# Altium footprint library PMW3389_PCBlib.PcbLib: 4 footprints
Each footprint in its own frame and in the unit in brackets; x right, y up, seen from the top. Pads: shape width x height; smd on the part's side, far side on the other; paste and mask are expansions set on the pad; w line width, h text height; cw(c..) or ccw(c..) is an arc to the next point about the centre after c.
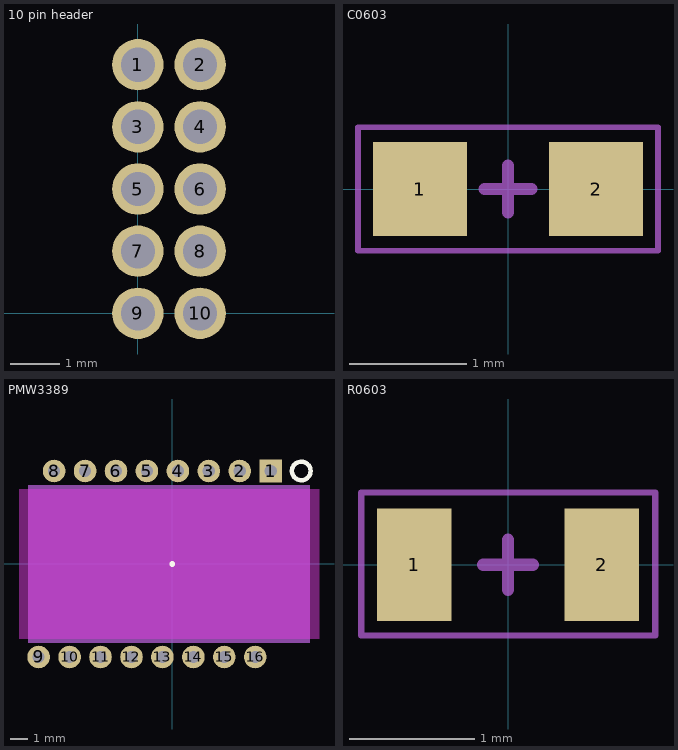
[diagram p0: the footprints below, top view; thin cyan lines are the x and y axes]

## 10 pin header [mm]
pads (10):
  round 1.05 hole 0.7 mask+0.05: 1(0,5.08) 2(1.27,5.08) 3(0,3.81) 4(1.27,3.81) 5(0,2.54) 6(1.27,2.54) 7(0,1.27) 8(1.27,1.27) 9(0,0) 10(1.27,0)

## C0603 [mm]
pads (2):
  rect 0.8x0.8 smd: 1(-0.75,0) 2(0.75,0)
Top Courtyard:
  lines w0.05: -1.277,-0.525 1.276,-0.525 1.276,0.525 -1.277,0.525 -1.277,-0.525
  lines w0.1: -0.2,0 0.2,0 ; 0,-0.2 0,0.2
3D body "User Library-C0603-2.STEP": height 0.8, standoff 0, extent -0.8,-0.4 0.8,0.4

## PMW3389 [mm] "PMW3389"
pads (16):
  rect 1.3x1.3 hole 0.7: 1(5.659,5.349)
  round 1.3 hole 0.7: 2(3.879,5.349) 3(2.099,5.349) 4(0.319,5.349) 5(-1.461,5.349) 6(-3.241,5.349) 7(-5.021,5.349) 8(-6.801,5.349) 9(-7.691,-5.351) 10(-5.911,-5.351) 11(-4.131,-5.351) 12(-2.351,-5.351) 13(-0.571,-5.351) 14(1.209,-5.351) 15(2.989,-5.351) 16(4.769,-5.351)
Top Overlay:
  circle w0.254: c-0.001,-0.001 r0.036
  circle w0.254: c7.418,5.353 r0.537
Keep-Out Layer:
  board cut-out: 8.439,4.299 8.439,-4.301 -8.821,-4.301 -8.821,4.299
Mechanical 1:
  rectangle: -8.291,-4.551 7.909,4.549
3D body: height 2.41, standoff 0, extent -8.291,-4.551 7.909,4.549

## R0603 [mm]
pads (2):
  rect 0.6x0.9 smd: 1(-0.75,0) 2(0.75,0)
Top Courtyard:
  lines w0.05: -1.174,-0.566 1.179,-0.566 1.179,0.58 -1.174,0.58 -1.174,-0.566
  lines w0.1: -0.2,0 0.2,0 ; 0,-0.2 0,0.2
3D body "User Library-R_0603.STEP": height 0.5, standoff 0, extent -0.8,-0.45 0.8,0.45